# EAGLE library part RDM6300 (library ali_modules)
RDM6300 125KHz rfid reader
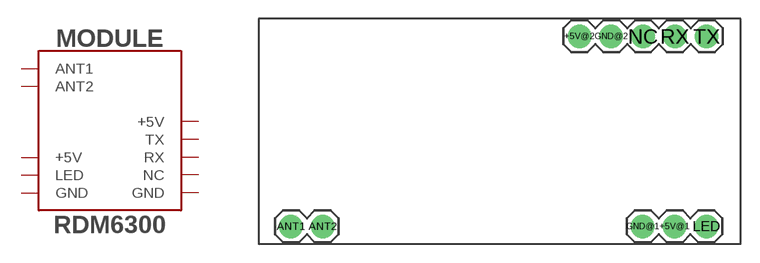
[diagram p2: symbol with the pads of RDM6300_1; footprint RDM6300_1]

Designator prefix MODULE

## RDM6300  [RDM6300_1]
+5V@1  +5V
+5V@2  +5V
ANT1  ANT1
ANT2  ANT2
GND@1  GND
GND@2  GND
LED  LED
NC  NC
RX  RX
TX  TX

## Footprint RDM6300_1 (pad centres in mm)
drill 1.016 pad 1.88: +5V@1 33.22,1.4; +5V@2 25.62,16.6; ANT1 2.58,1.4; ANT2 5.12,1.4; GND@1 30.68,1.4; GND@2 28.16,16.6; LED 35.76,1.4; NC 30.7,16.6; RX 33.24,16.6; TX 35.78,16.6